# EAGLE library part PICOLOCK_8 (library template_board)
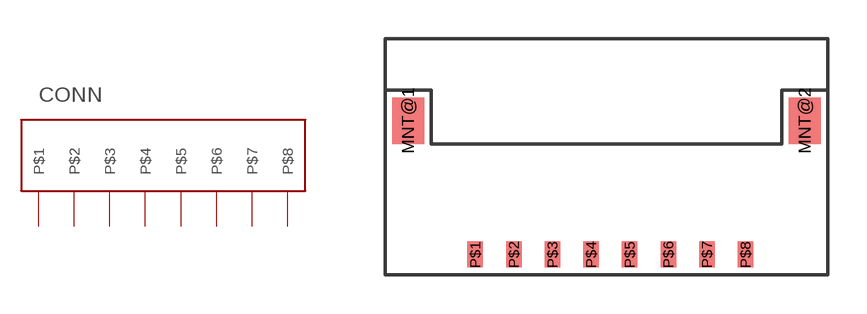
[diagram p18: symbol with the pads of PICOLOCK_8; footprint PICOLOCK_8]

Designator prefix CONN

## PICOLOCK_8PICOLOCK_8  [PICOLOCK_8]
P$1  P$1
P$2  P$2
P$3  P$3
P$4  P$4
P$5  P$5
P$6  P$6
P$7  P$7
P$8  P$8

## Footprint PICOLOCK_8 (pad centres in mm)
smd 1.25 x 1.8: MNT@1 -2.605,5.2; MNT@2 12.805,5.2
smd 0.6 x 1: P$1 0,0; P$2 1.5,0; P$3 3,0; P$4 4.5,0; P$5 6,0; P$6 7.5,0; P$7 9,0; P$8 10.5,0